# Altium footprint library SOD123.PcbLib: 1 footprints
Each footprint in its own frame and in the unit in brackets; x right, y up, seen from the top. Pads: shape width x height; smd on the part's side, far side on the other; paste and mask are expansions set on the pad; w line width, h text height; cw(c..) or ccw(c..) is an arc to the next point about the centre after c.
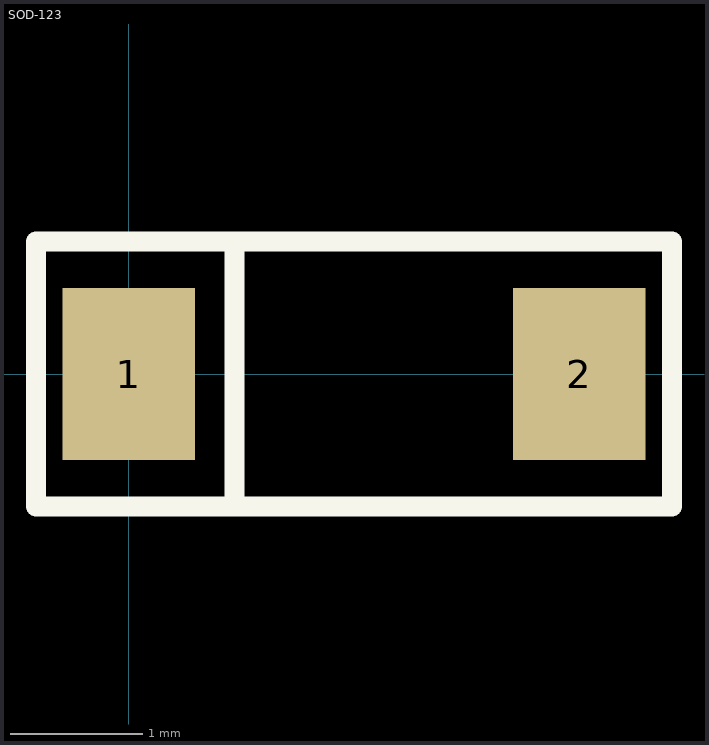
[diagram p0: the footprint, top view; thin cyan lines are the x and y axes]

## SOD-123 [mm]
pads (2):
  rect 1x1.3 smd: 1(0,0) 2(3.4,0)
Top Overlay:
  lines w0.15: 0.8,-1 0.8,1 ; -0.7,-1 4.1,-1 4.1,1 -0.7,1 -0.7,-1
3D body: height 1.27, standoff 0, extent -0.15,-0.8 3.55,0.8